# Altium footprint library Linear Technology PMIC-Switching Reg LTC1174-LTC3901.PcbLib: 163 footprints (part 10 of 11)
Each footprint in its own frame and in the unit in brackets; x right, y up, seen from the top. Pads: shape width x height; smd on the part's side, far side on the other; paste and mask are expansions set on the pad; w line width, h text height; cw(c..) or ccw(c..) is an arc to the next point about the centre after c.
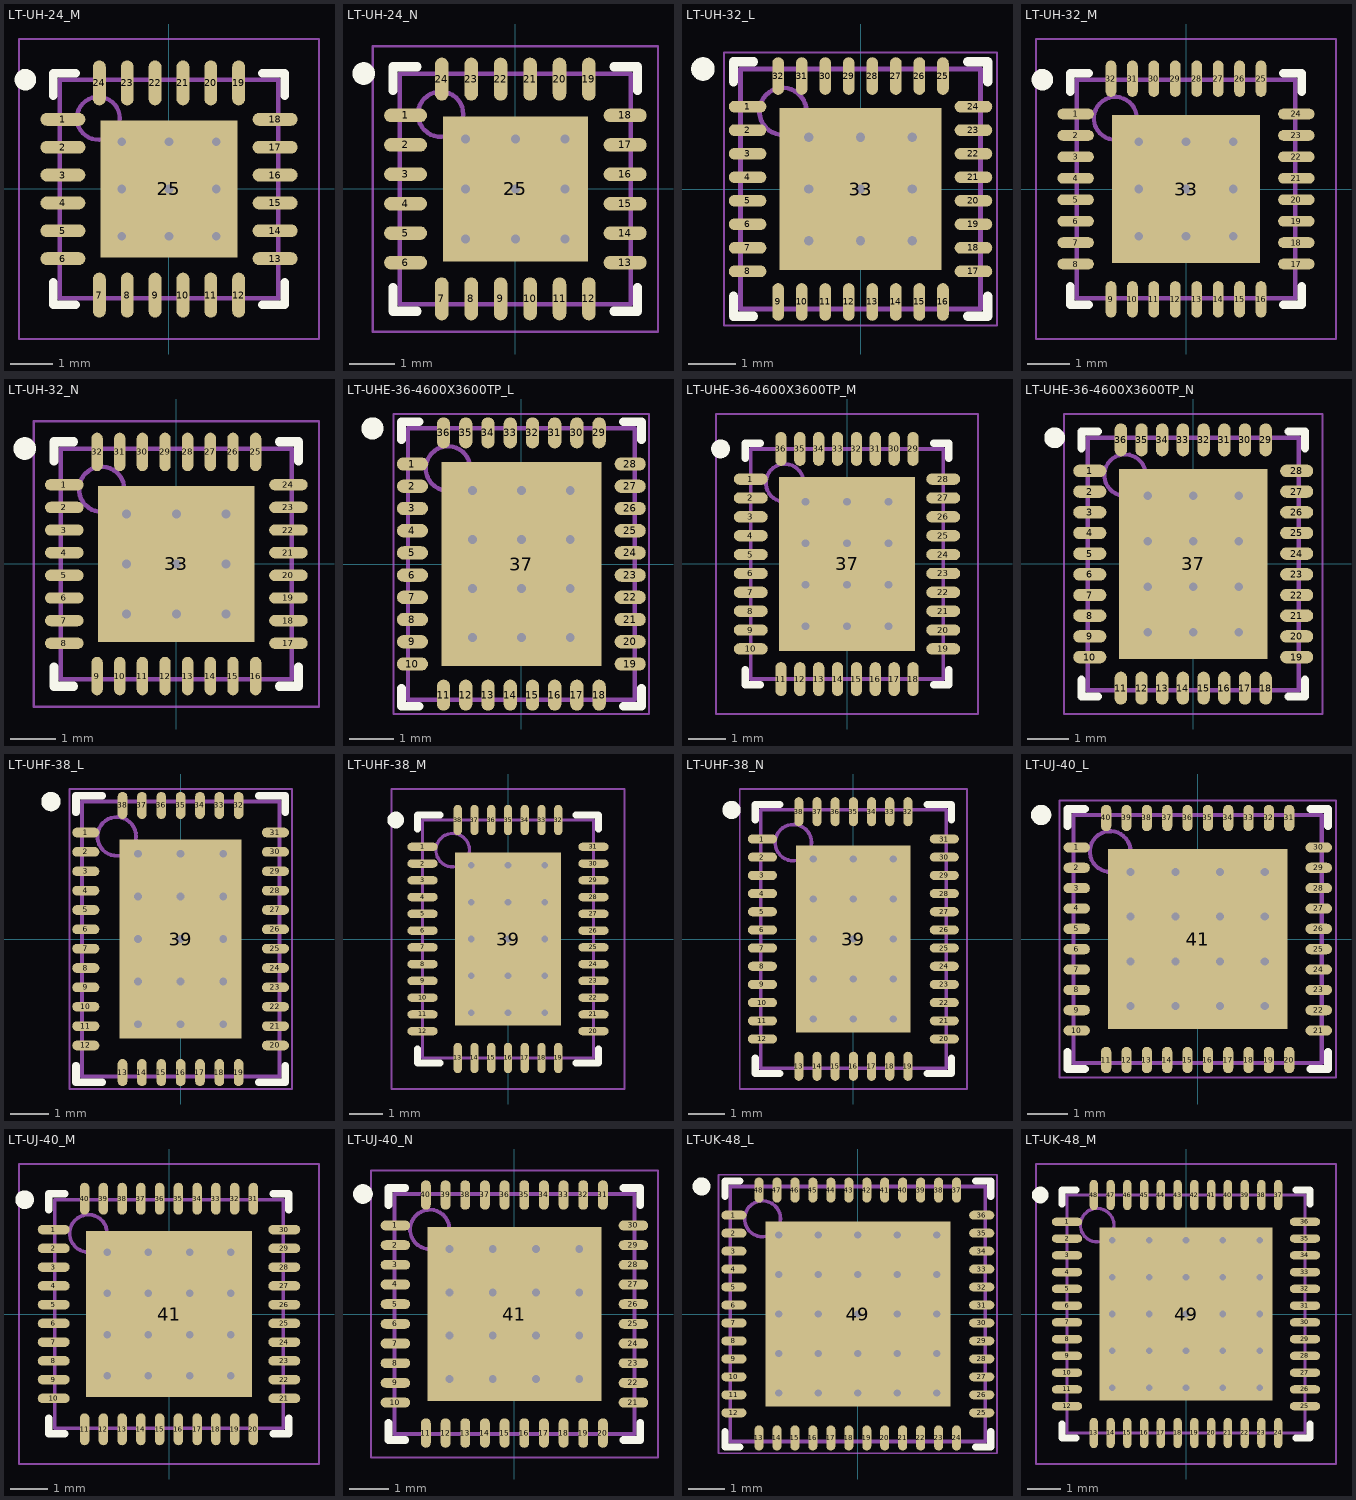
[diagram p9: the footprints below, top view; thin cyan lines are the x and y axes]

## LT-UH-24_M [mm] "QFN, 24-Leads, Body 5.1x5.1mm, Pitch 0.65mm, Thermal Pad 3.2x3.2mm, IPC Low Density"
height 0.8
pads (25):
  oval 1.05x0.3 smd: 1(-2.475,1.625) 2(-2.475,0.975) 3(-2.475,0.325) 4(-2.475,-0.325) 5(-2.475,-0.975) 6(-2.475,-1.625) 13(2.475,-1.625) 14(2.475,-0.975) 15(2.475,-0.325) 16(2.475,0.325) 17(2.475,0.975) 18(2.475,1.625)
  oval 0.3x1.05 smd: 7(-1.625,-2.475) 8(-0.975,-2.475) 9(-0.325,-2.475) 10(0.325,-2.475) 11(0.975,-2.475) 12(1.625,-2.475) 19(1.625,2.475) 20(0.975,2.475) 21(0.325,2.475) 22(-0.325,2.475) 23(-0.975,2.475) 24(-1.625,2.475)
  rect 3.2x3.2 smd: 25(0,0)
via 1.1,-1.1 diameter 0.5 hole 0.2
via 0,-1.1 diameter 0.5 hole 0.2
via -1.1,-1.1 diameter 0.5 hole 0.2
via 1.1,0 diameter 0.5 hole 0.2
via 0,0 diameter 0.5 hole 0.2
via -1.1,0 diameter 0.5 hole 0.2
via 1.1,1.1 diameter 0.5 hole 0.2
via 0,1.1 diameter 0.5 hole 0.2
via -1.1,1.1 diameter 0.5 hole 0.2
Top Overlay:
  circle w0.25: c-3.35,2.55 r0.125
  lines w0.2: -2.7,-2.175 -2.7,-2.7 -2.175,-2.7 ; -2.7,2.175 -2.7,2.7 -2.175,2.7 ; 2.175,-2.7 2.7,-2.7 2.7,-2.175 ; 2.175,2.7 2.7,2.7 2.7,2.175
Mechanical 13:
  circle w0.1: c-1.65,1.65 r0.5
  lines w0.1: -2.55,-2.55 2.55,-2.55 2.55,2.55 -2.55,2.55 -2.55,-2.55
Mechanical 15:
  lines w0.05: -3.5,-3.5 3.5,-3.5 3.5,3.5 -3.5,3.5 -3.5,-3.5
  lines w0.1: -0.5,0 0.5,0 ; 0,-0.5 0,0.5
3D body: height 0.8, standoff 0, extent -2.55,-2.55 2.55,2.55

## LT-UH-24_N [mm] "QFN, 24-Leads, Body 5.1x5.1mm, Pitch 0.65mm, Thermal Pad 3.2x3.2mm, IPC Medium Density"
height 0.8
pads (25):
  oval 0.95x0.3 smd: 1(-2.425,1.625) 2(-2.425,0.975) 3(-2.425,0.325) 4(-2.425,-0.325) 5(-2.425,-0.975) 6(-2.425,-1.625) 13(2.425,-1.625) 14(2.425,-0.975) 15(2.425,-0.325) 16(2.425,0.325) 17(2.425,0.975) 18(2.425,1.625)
  oval 0.3x0.95 smd: 7(-1.625,-2.425) 8(-0.975,-2.425) 9(-0.325,-2.425) 10(0.325,-2.425) 11(0.975,-2.425) 12(1.625,-2.425) 19(1.625,2.425) 20(0.975,2.425) 21(0.325,2.425) 22(-0.325,2.425) 23(-0.975,2.425) 24(-1.625,2.425)
  rect 3.2x3.2 smd: 25(0,0)
via 1.1,-1.1 diameter 0.5 hole 0.2
via 0,-1.1 diameter 0.5 hole 0.2
via -1.1,-1.1 diameter 0.5 hole 0.2
via 1.1,0 diameter 0.5 hole 0.2
via 0,0 diameter 0.5 hole 0.2
via -1.1,0 diameter 0.5 hole 0.2
via 1.1,1.1 diameter 0.5 hole 0.2
via 0,1.1 diameter 0.5 hole 0.2
via -1.1,1.1 diameter 0.5 hole 0.2
Top Overlay:
  circle w0.25: c-3.35,2.55 r0.125
  lines w0.2: -2.7,-2.175 -2.7,-2.7 -2.175,-2.7 ; -2.7,2.175 -2.7,2.7 -2.175,2.7 ; 2.175,-2.7 2.7,-2.7 2.7,-2.175 ; 2.175,2.7 2.7,2.7 2.7,2.175
Mechanical 13:
  circle w0.1: c-1.65,1.65 r0.5
  lines w0.1: -2.55,-2.55 2.55,-2.55 2.55,2.55 -2.55,2.55 -2.55,-2.55
Mechanical 15:
  lines w0.05: -3.15,-3.15 3.15,-3.15 3.15,3.15 -3.15,3.15 -3.15,-3.15
  lines w0.1: -0.5,0 0.5,0 ; 0,-0.5 0,0.5
3D body: height 0.8, standoff 0, extent -2.55,-2.55 2.55,2.55

## LT-UH-32_L [mm] "QFN, 32-Leads, Body 5.1x5.1mm, Pitch 0.5mm, Thermal Pad 3.45X3.45mm, IPC High Density"
height 0.8
pads (33):
  oval 0.8x0.25 smd: 1(-2.4,1.75) 2(-2.4,1.25) 3(-2.4,0.75) 4(-2.4,0.25) 5(-2.4,-0.25) 6(-2.4,-0.75) 7(-2.4,-1.25) 8(-2.4,-1.75) 17(2.4,-1.75) 18(2.4,-1.25) 19(2.4,-0.75) 20(2.4,-0.25) 21(2.4,0.25) 22(2.4,0.75) 23(2.4,1.25) 24(2.4,1.75)
  oval 0.25x0.8 smd: 9(-1.75,-2.4) 10(-1.25,-2.4) 11(-0.75,-2.4) 12(-0.25,-2.4) 13(0.25,-2.4) 14(0.75,-2.4) 15(1.25,-2.4) 16(1.75,-2.4) 25(1.75,2.4) 26(1.25,2.4) 27(0.75,2.4) 28(0.25,2.4) 29(-0.25,2.4) 30(-0.75,2.4) 31(-1.25,2.4) 32(-1.75,2.4)
  rect 3.45x3.45 smd: 33(0,0)
via -1.1,1.1 diameter 0.5 hole 0.2
via 0,1.1 diameter 0.5 hole 0.2
via 1.1,1.1 diameter 0.5 hole 0.2
via -1.1,0 diameter 0.5 hole 0.2
via 0,0 diameter 0.5 hole 0.2
via 1.1,0 diameter 0.5 hole 0.2
via -1.1,-1.1 diameter 0.5 hole 0.2
via 0,-1.1 diameter 0.5 hole 0.2
via 1.1,-1.1 diameter 0.5 hole 0.2
Top Overlay:
  circle w0.25: c-3.35,2.55 r0.125
  lines w0.2: -2.7,-2.275 -2.7,-2.7 -2.275,-2.7 ; -2.7,2.275 -2.7,2.7 -2.275,2.7 ; 2.275,-2.7 2.7,-2.7 2.7,-2.275 ; 2.275,2.7 2.7,2.7 2.7,2.275
Mechanical 13:
  circle w0.1: c-1.65,1.65 r0.5
  lines w0.1: -2.55,-2.55 -2.55,2.55 2.55,2.55 2.55,-2.55 -2.55,-2.55
Mechanical 15:
  lines w0.05: -2.9,-2.9 -2.9,2.9 2.9,2.9 2.9,-2.9 -2.9,-2.9
  lines w0.1: -0.5,0 0.5,0 ; 0,-0.5 0,0.5
3D body: height 0.8, standoff 0, extent -2.55,-2.55 2.55,2.55

## LT-UH-32_M [mm] "QFN, 32-Leads, Body 5.1x5.1mm, Pitch 0.5mm, Thermal Pad 3.45X3.45mm, IPC Low Density"
height 0.8
pads (33):
  oval 0.85x0.25 smd: 1(-2.575,1.75) 2(-2.575,1.25) 3(-2.575,0.75) 4(-2.575,0.25) 5(-2.575,-0.25) 6(-2.575,-0.75) 7(-2.575,-1.25) 8(-2.575,-1.75) 17(2.575,-1.75) 18(2.575,-1.25) 19(2.575,-0.75) 20(2.575,-0.25) 21(2.575,0.25) 22(2.575,0.75) 23(2.575,1.25) 24(2.575,1.75)
  oval 0.25x0.85 smd: 9(-1.75,-2.575) 10(-1.25,-2.575) 11(-0.75,-2.575) 12(-0.25,-2.575) 13(0.25,-2.575) 14(0.75,-2.575) 15(1.25,-2.575) 16(1.75,-2.575) 25(1.75,2.575) 26(1.25,2.575) 27(0.75,2.575) 28(0.25,2.575) 29(-0.25,2.575) 30(-0.75,2.575) 31(-1.25,2.575) 32(-1.75,2.575)
  rect 3.45x3.45 smd: 33(0,0)
via -1.1,1.1 diameter 0.5 hole 0.2
via 0,1.1 diameter 0.5 hole 0.2
via 1.1,1.1 diameter 0.5 hole 0.2
via -1.1,0 diameter 0.5 hole 0.2
via 0,0 diameter 0.5 hole 0.2
via 1.1,0 diameter 0.5 hole 0.2
via -1.1,-1.1 diameter 0.5 hole 0.2
via 0,-1.1 diameter 0.5 hole 0.2
via 1.1,-1.1 diameter 0.5 hole 0.2
Top Overlay:
  circle w0.25: c-3.35,2.55 r0.125
  lines w0.2: -2.7,-2.275 -2.7,-2.7 -2.275,-2.7 ; -2.7,2.275 -2.7,2.7 -2.275,2.7 ; 2.275,-2.7 2.7,-2.7 2.7,-2.275 ; 2.275,2.7 2.7,2.7 2.7,2.275
Mechanical 13:
  circle w0.1: c-1.65,1.65 r0.5
  lines w0.1: -2.55,-2.55 -2.55,2.55 2.55,2.55 2.55,-2.55 -2.55,-2.55
Mechanical 15:
  lines w0.05: -3.5,-3.5 -3.5,3.5 3.5,3.5 3.5,-3.5 -3.5,-3.5
  lines w0.1: -0.5,0 0.5,0 ; 0,-0.5 0,0.5
3D body: height 0.8, standoff 0, extent -2.55,-2.55 2.55,2.55

## LT-UH-32_N [mm] "QFN, 32-Leads, Body 5.1x5.1mm, Pitch 0.5mm, Thermal Pad 3.45X3.45mm, IPC Medium Density"
height 0.8
pads (33):
  oval 0.85x0.25 smd: 1(-2.475,1.75) 2(-2.475,1.25) 3(-2.475,0.75) 4(-2.475,0.25) 5(-2.475,-0.25) 6(-2.475,-0.75) 7(-2.475,-1.25) 8(-2.475,-1.75) 17(2.475,-1.75) 18(2.475,-1.25) 19(2.475,-0.75) 20(2.475,-0.25) 21(2.475,0.25) 22(2.475,0.75) 23(2.475,1.25) 24(2.475,1.75)
  oval 0.25x0.85 smd: 9(-1.75,-2.475) 10(-1.25,-2.475) 11(-0.75,-2.475) 12(-0.25,-2.475) 13(0.25,-2.475) 14(0.75,-2.475) 15(1.25,-2.475) 16(1.75,-2.475) 25(1.75,2.475) 26(1.25,2.475) 27(0.75,2.475) 28(0.25,2.475) 29(-0.25,2.475) 30(-0.75,2.475) 31(-1.25,2.475) 32(-1.75,2.475)
  rect 3.45x3.45 smd: 33(0,0)
via -1.1,1.1 diameter 0.5 hole 0.2
via 0,1.1 diameter 0.5 hole 0.2
via 1.1,1.1 diameter 0.5 hole 0.2
via -1.1,0 diameter 0.5 hole 0.2
via 0,0 diameter 0.5 hole 0.2
via 1.1,0 diameter 0.5 hole 0.2
via -1.1,-1.1 diameter 0.5 hole 0.2
via 0,-1.1 diameter 0.5 hole 0.2
via 1.1,-1.1 diameter 0.5 hole 0.2
Top Overlay:
  circle w0.25: c-3.35,2.55 r0.125
  lines w0.2: -2.7,-2.275 -2.7,-2.7 -2.275,-2.7 ; -2.7,2.275 -2.7,2.7 -2.275,2.7 ; 2.275,-2.7 2.7,-2.7 2.7,-2.275 ; 2.275,2.7 2.7,2.7 2.7,2.275
Mechanical 13:
  circle w0.1: c-1.65,1.65 r0.5
  lines w0.1: -2.55,-2.55 -2.55,2.55 2.55,2.55 2.55,-2.55 -2.55,-2.55
Mechanical 15:
  lines w0.05: -3.15,-3.15 -3.15,3.15 3.15,3.15 3.15,-3.15 -3.15,-3.15
  lines w0.1: -0.5,0 0.5,0 ; 0,-0.5 0,0.5
3D body: height 0.8, standoff 0, extent -2.55,-2.55 2.55,2.55

## LT-UHE-36-4600X3600TP_L [mm] "QFN, 36-Leads, Body 6.1x5.1mm, Pitch 0.5mm, Thermal Pad 4.6x3.6mm, IPC High Density"
height 0.8
pads (37):
  oval 0.7x0.3 smd: 1(-2.45,2.25) 2(-2.45,1.75) 3(-2.45,1.25) 4(-2.45,0.75) 5(-2.45,0.25) 6(-2.45,-0.25) 7(-2.45,-0.75) 8(-2.45,-1.25) 9(-2.45,-1.75) 10(-2.45,-2.25) 19(2.45,-2.25) 20(2.45,-1.75) 21(2.45,-1.25) 22(2.45,-0.75) 23(2.45,-0.25) 24(2.45,0.25) 25(2.45,0.75) 26(2.45,1.25) 27(2.45,1.75) 28(2.45,2.25)
  oval 0.3x0.7 smd: 11(-1.75,-2.95) 12(-1.25,-2.95) 13(-0.75,-2.95) 14(-0.25,-2.95) 15(0.25,-2.95) 16(0.75,-2.95) 17(1.25,-2.95) 18(1.75,-2.95) 29(1.75,2.95) 30(1.25,2.95) 31(0.75,2.95) 32(0.25,2.95) 33(-0.25,2.95) 34(-0.75,2.95) 35(-1.25,2.95) 36(-1.75,2.95)
  rect 3.6x4.6 smd: 37(0,0)
via -1.1,1.65 diameter 0.5 hole 0.2
via 0,1.65 diameter 0.5 hole 0.2
via 1.1,1.65 diameter 0.5 hole 0.2
via -1.1,0.55 diameter 0.5 hole 0.2
via 0,0.55 diameter 0.5 hole 0.2
via 1.1,0.55 diameter 0.5 hole 0.2
via -1.1,-0.55 diameter 0.5 hole 0.2
via 0,-0.55 diameter 0.5 hole 0.2
via 1.1,-0.55 diameter 0.5 hole 0.2
via -1.1,-1.65 diameter 0.5 hole 0.2
via 0,-1.65 diameter 0.5 hole 0.2
via 1.1,-1.65 diameter 0.5 hole 0.2
Top Overlay:
  circle w0.25: c-3.35,3.05 r0.125
  lines w0.2: -2.7,-2.8 -2.7,-3.2 -2.3,-3.2 ; -2.7,2.8 -2.7,3.2 -2.3,3.2 ; 2.3,-3.2 2.7,-3.2 2.7,-2.8 ; 2.3,3.2 2.7,3.2 2.7,2.8
Mechanical 13:
  circle w0.1: c-1.65,2.15 r0.5
  lines w0.1: -2.55,-3.05 -2.55,3.05 2.55,3.05 2.55,-3.05 -2.55,-3.05
Mechanical 15:
  lines w0.05: -2.875,-3.375 -2.875,3.375 2.875,3.375 2.875,-3.375 -2.875,-3.375
  lines w0.1: -0.5,0 0.5,0 ; 0,-0.5 0,0.5
3D body: height 0.8, standoff 0, extent -2.55,-3.05 2.55,3.05

## LT-UHE-36-4600X3600TP_M [mm] "QFN, 36-Leads, Body 6.1x5.1mm, Pitch 0.5mm, Thermal Pad 4.6x3.6mm, IPC Low Density"
height 0.8
pads (37):
  oval 0.9x0.3 smd: 1(-2.55,2.25) 2(-2.55,1.75) 3(-2.55,1.25) 4(-2.55,0.75) 5(-2.55,0.25) 6(-2.55,-0.25) 7(-2.55,-0.75) 8(-2.55,-1.25) 9(-2.55,-1.75) 10(-2.55,-2.25) 19(2.55,-2.25) 20(2.55,-1.75) 21(2.55,-1.25) 22(2.55,-0.75) 23(2.55,-0.25) 24(2.55,0.25) 25(2.55,0.75) 26(2.55,1.25) 27(2.55,1.75) 28(2.55,2.25)
  oval 0.3x0.9 smd: 11(-1.75,-3.05) 12(-1.25,-3.05) 13(-0.75,-3.05) 14(-0.25,-3.05) 15(0.25,-3.05) 16(0.75,-3.05) 17(1.25,-3.05) 18(1.75,-3.05) 29(1.75,3.05) 30(1.25,3.05) 31(0.75,3.05) 32(0.25,3.05) 33(-0.25,3.05) 34(-0.75,3.05) 35(-1.25,3.05) 36(-1.75,3.05)
  rect 3.6x4.6 smd: 37(0,0)
via -1.1,1.65 diameter 0.5 hole 0.2
via 0,1.65 diameter 0.5 hole 0.2
via 1.1,1.65 diameter 0.5 hole 0.2
via -1.1,0.55 diameter 0.5 hole 0.2
via 0,0.55 diameter 0.5 hole 0.2
via 1.1,0.55 diameter 0.5 hole 0.2
via -1.1,-0.55 diameter 0.5 hole 0.2
via 0,-0.55 diameter 0.5 hole 0.2
via 1.1,-0.55 diameter 0.5 hole 0.2
via -1.1,-1.65 diameter 0.5 hole 0.2
via 0,-1.65 diameter 0.5 hole 0.2
via 1.1,-1.65 diameter 0.5 hole 0.2
Top Overlay:
  circle w0.25: c-3.35,3.05 r0.125
  lines w0.2: -2.7,-2.8 -2.7,-3.2 -2.3,-3.2 ; -2.7,2.8 -2.7,3.2 -2.3,3.2 ; 2.3,-3.2 2.7,-3.2 2.7,-2.8 ; 2.3,3.2 2.7,3.2 2.7,2.8
Mechanical 13:
  circle w0.1: c-1.65,2.15 r0.5
  lines w0.1: -2.55,-3.05 -2.55,3.05 2.55,3.05 2.55,-3.05 -2.55,-3.05
Mechanical 15:
  lines w0.05: -3.475,-3.975 -3.475,3.975 3.475,3.975 3.475,-3.975 -3.475,-3.975
  lines w0.1: -0.5,0 0.5,0 ; 0,-0.5 0,0.5
3D body: height 0.8, standoff 0, extent -2.55,-3.05 2.55,3.05

## LT-UHE-36-4600X3600TP_N [mm] "QFN, 36-Leads, Body 6.1x5.1mm, Pitch 0.5mm, Thermal Pad 4.6x3.6mm, IPC Medium Density"
height 0.8
pads (37):
  oval 0.8x0.3 smd: 1(-2.5,2.25) 2(-2.5,1.75) 3(-2.5,1.25) 4(-2.5,0.75) 5(-2.5,0.25) 6(-2.5,-0.25) 7(-2.5,-0.75) 8(-2.5,-1.25) 9(-2.5,-1.75) 10(-2.5,-2.25) 19(2.5,-2.25) 20(2.5,-1.75) 21(2.5,-1.25) 22(2.5,-0.75) 23(2.5,-0.25) 24(2.5,0.25) 25(2.5,0.75) 26(2.5,1.25) 27(2.5,1.75) 28(2.5,2.25)
  oval 0.3x0.8 smd: 11(-1.75,-3) 12(-1.25,-3) 13(-0.75,-3) 14(-0.25,-3) 15(0.25,-3) 16(0.75,-3) 17(1.25,-3) 18(1.75,-3) 29(1.75,3) 30(1.25,3) 31(0.75,3) 32(0.25,3) 33(-0.25,3) 34(-0.75,3) 35(-1.25,3) 36(-1.75,3)
  rect 3.6x4.6 smd: 37(0,0)
via -1.1,1.65 diameter 0.5 hole 0.2
via 0,1.65 diameter 0.5 hole 0.2
via 1.1,1.65 diameter 0.5 hole 0.2
via -1.1,0.55 diameter 0.5 hole 0.2
via 0,0.55 diameter 0.5 hole 0.2
via 1.1,0.55 diameter 0.5 hole 0.2
via -1.1,-0.55 diameter 0.5 hole 0.2
via 0,-0.55 diameter 0.5 hole 0.2
via 1.1,-0.55 diameter 0.5 hole 0.2
via -1.1,-1.65 diameter 0.5 hole 0.2
via 0,-1.65 diameter 0.5 hole 0.2
via 1.1,-1.65 diameter 0.5 hole 0.2
Top Overlay:
  circle w0.25: c-3.35,3.05 r0.125
  lines w0.2: -2.7,-2.8 -2.7,-3.2 -2.3,-3.2 ; -2.7,2.8 -2.7,3.2 -2.3,3.2 ; 2.3,-3.2 2.7,-3.2 2.7,-2.8 ; 2.3,3.2 2.7,3.2 2.7,2.8
Mechanical 13:
  circle w0.1: c-1.65,2.15 r0.5
  lines w0.1: -2.55,-3.05 -2.55,3.05 2.55,3.05 2.55,-3.05 -2.55,-3.05
Mechanical 15:
  lines w0.05: -3.125,-3.625 -3.125,3.625 3.125,3.625 3.125,-3.625 -3.125,-3.625
  lines w0.1: -0.5,0 0.5,0 ; 0,-0.5 0,0.5
3D body: height 0.8, standoff 0, extent -2.55,-3.05 2.55,3.05

## LT-UHF-38_L [mm] "QFN, 38-Leads, Body 7.1x5.1mm, Pitch 0.5mm, Thermal Pad 3.15x5.15mm, IPC High Density"
height 0.8
pads (39):
  oval 0.7x0.25 smd: 1(-2.45,2.75) 2(-2.45,2.25) 3(-2.45,1.75) 4(-2.45,1.25) 5(-2.45,0.75) 6(-2.45,0.25) 7(-2.45,-0.25) 8(-2.45,-0.75) 9(-2.45,-1.25) 10(-2.45,-1.75) 11(-2.45,-2.25) 12(-2.45,-2.75) 20(2.45,-2.75) 21(2.45,-2.25) 22(2.45,-1.75) 23(2.45,-1.25) 24(2.45,-0.75) 25(2.45,-0.25) 26(2.45,0.25) 27(2.45,0.75) 28(2.45,1.25) 29(2.45,1.75) 30(2.45,2.25) 31(2.45,2.75)
  oval 0.25x0.7 smd: 13(-1.5,-3.45) 14(-1,-3.45) 15(-0.5,-3.45) 16(0,-3.45) 17(0.5,-3.45) 18(1,-3.45) 19(1.5,-3.45) 32(1.5,3.45) 33(1,3.45) 34(0.5,3.45) 35(0,3.45) 36(-0.5,3.45) 37(-1,3.45) 38(-1.5,3.45)
  rect 3.15x5.15 smd: 39(0,0)
via -1.1,2.2 diameter 0.5 hole 0.2
via 0,2.2 diameter 0.5 hole 0.2
via 1.1,2.2 diameter 0.5 hole 0.2
via -1.1,1.1 diameter 0.5 hole 0.2
via 0,1.1 diameter 0.5 hole 0.2
via 1.1,1.1 diameter 0.5 hole 0.2
via -1.1,0 diameter 0.5 hole 0.2
via 0,0 diameter 0.5 hole 0.2
via 1.1,0 diameter 0.5 hole 0.2
via -1.1,-1.1 diameter 0.5 hole 0.2
via 0,-1.1 diameter 0.5 hole 0.2
via 1.1,-1.1 diameter 0.5 hole 0.2
via -1.1,-2.2 diameter 0.5 hole 0.2
via 0,-2.2 diameter 0.5 hole 0.2
via 1.1,-2.2 diameter 0.5 hole 0.2
Top Overlay:
  circle w0.25: c-3.35,3.55 r0.125
  lines w0.2: -2.7,-3.275 -2.7,-3.7 -2.025,-3.7 ; -2.7,3.275 -2.7,3.7 -2.025,3.7 ; 2.025,-3.7 2.7,-3.7 2.7,-3.275 ; 2.025,3.7 2.7,3.7 2.7,3.275
Mechanical 13:
  circle w0.1: c-1.65,2.65 r0.5
  lines w0.1: -2.55,-3.55 -2.55,3.55 2.55,3.55 2.55,-3.55 -2.55,-3.55
Mechanical 15:
  lines w0.05: -2.875,-3.875 -2.875,3.875 2.875,3.875 2.875,-3.875 -2.875,-3.875
  lines w0.1: -0.5,0 0.5,0 ; 0,-0.5 0,0.5
3D body: height 0.8, standoff 0, extent -2.55,-3.55 2.55,3.55

## LT-UHF-38_M [mm] "QFN, 38-Leads, Body 7.1x5.1mm, Pitch 0.5mm, Thermal Pad 3.15x5.15mm, IPC Low Density"
height 0.8
pads (39):
  oval 0.9x0.25 smd: 1(-2.55,2.75) 2(-2.55,2.25) 3(-2.55,1.75) 4(-2.55,1.25) 5(-2.55,0.75) 6(-2.55,0.25) 7(-2.55,-0.25) 8(-2.55,-0.75) 9(-2.55,-1.25) 10(-2.55,-1.75) 11(-2.55,-2.25) 12(-2.55,-2.75) 20(2.55,-2.75) 21(2.55,-2.25) 22(2.55,-1.75) 23(2.55,-1.25) 24(2.55,-0.75) 25(2.55,-0.25) 26(2.55,0.25) 27(2.55,0.75) 28(2.55,1.25) 29(2.55,1.75) 30(2.55,2.25) 31(2.55,2.75)
  oval 0.25x0.9 smd: 13(-1.5,-3.55) 14(-1,-3.55) 15(-0.5,-3.55) 16(0,-3.55) 17(0.5,-3.55) 18(1,-3.55) 19(1.5,-3.55) 32(1.5,3.55) 33(1,3.55) 34(0.5,3.55) 35(0,3.55) 36(-0.5,3.55) 37(-1,3.55) 38(-1.5,3.55)
  rect 3.15x5.15 smd: 39(0,0)
via -1.1,2.2 diameter 0.5 hole 0.2
via 0,2.2 diameter 0.5 hole 0.2
via 1.1,2.2 diameter 0.5 hole 0.2
via -1.1,1.1 diameter 0.5 hole 0.2
via 0,1.1 diameter 0.5 hole 0.2
via 1.1,1.1 diameter 0.5 hole 0.2
via -1.1,0 diameter 0.5 hole 0.2
via 0,0 diameter 0.5 hole 0.2
via 1.1,0 diameter 0.5 hole 0.2
via -1.1,-1.1 diameter 0.5 hole 0.2
via 0,-1.1 diameter 0.5 hole 0.2
via 1.1,-1.1 diameter 0.5 hole 0.2
via -1.1,-2.2 diameter 0.5 hole 0.2
via 0,-2.2 diameter 0.5 hole 0.2
via 1.1,-2.2 diameter 0.5 hole 0.2
Top Overlay:
  circle w0.25: c-3.35,3.55 r0.125
  lines w0.2: -2.7,-3.275 -2.7,-3.7 -2.025,-3.7 ; -2.7,3.275 -2.7,3.7 -2.025,3.7 ; 2.025,-3.7 2.7,-3.7 2.7,-3.275 ; 2.025,3.7 2.7,3.7 2.7,3.275
Mechanical 13:
  circle w0.1: c-1.65,2.65 r0.5
  lines w0.1: -2.55,-3.55 -2.55,3.55 2.55,3.55 2.55,-3.55 -2.55,-3.55
Mechanical 15:
  lines w0.05: -3.475,-4.475 -3.475,4.475 3.475,4.475 3.475,-4.475 -3.475,-4.475
  lines w0.1: -0.5,0 0.5,0 ; 0,-0.5 0,0.5
3D body: height 0.8, standoff 0, extent -2.55,-3.55 2.55,3.55

## LT-UHF-38_N [mm] "QFN, 38-Leads, Body 7.1x5.1mm, Pitch 0.5mm, Thermal Pad 3.15x5.15mm, IPC Medium Density"
height 0.8
pads (39):
  oval 0.8x0.25 smd: 1(-2.5,2.75) 2(-2.5,2.25) 3(-2.5,1.75) 4(-2.5,1.25) 5(-2.5,0.75) 6(-2.5,0.25) 7(-2.5,-0.25) 8(-2.5,-0.75) 9(-2.5,-1.25) 10(-2.5,-1.75) 11(-2.5,-2.25) 12(-2.5,-2.75) 20(2.5,-2.75) 21(2.5,-2.25) 22(2.5,-1.75) 23(2.5,-1.25) 24(2.5,-0.75) 25(2.5,-0.25) 26(2.5,0.25) 27(2.5,0.75) 28(2.5,1.25) 29(2.5,1.75) 30(2.5,2.25) 31(2.5,2.75)
  oval 0.25x0.8 smd: 13(-1.5,-3.5) 14(-1,-3.5) 15(-0.5,-3.5) 16(0,-3.5) 17(0.5,-3.5) 18(1,-3.5) 19(1.5,-3.5) 32(1.5,3.5) 33(1,3.5) 34(0.5,3.5) 35(0,3.5) 36(-0.5,3.5) 37(-1,3.5) 38(-1.5,3.5)
  rect 3.15x5.15 smd: 39(0,0)
via 1.1,-2.2 diameter 0.5 hole 0.2
via 0,-2.2 diameter 0.5 hole 0.2
via -1.1,-2.2 diameter 0.5 hole 0.2
via 1.1,-1.1 diameter 0.5 hole 0.2
via 0,-1.1 diameter 0.5 hole 0.2
via -1.1,-1.1 diameter 0.5 hole 0.2
via 1.1,0 diameter 0.5 hole 0.2
via 0,0 diameter 0.5 hole 0.2
via -1.1,0 diameter 0.5 hole 0.2
via 1.1,1.1 diameter 0.5 hole 0.2
via 0,1.1 diameter 0.5 hole 0.2
via -1.1,1.1 diameter 0.5 hole 0.2
via 1.1,2.2 diameter 0.5 hole 0.2
via 0,2.2 diameter 0.5 hole 0.2
via -1.1,2.2 diameter 0.5 hole 0.2
Top Overlay:
  circle w0.25: c-3.35,3.55 r0.125
  lines w0.2: -2.7,-3.275 -2.7,-3.7 -2.025,-3.7 ; -2.7,3.275 -2.7,3.7 -2.025,3.7 ; 2.025,-3.7 2.7,-3.7 2.7,-3.275 ; 2.025,3.7 2.7,3.7 2.7,3.275
Mechanical 13:
  circle w0.1: c-1.65,2.65 r0.5
  lines w0.1: -2.55,-3.55 2.55,-3.55 2.55,3.55 -2.55,3.55 -2.55,-3.55
Mechanical 15:
  lines w0.05: -3.125,-4.125 3.125,-4.125 3.125,4.125 -3.125,4.125 -3.125,-4.125
  lines w0.1: -0.5,0 0.5,0 ; 0,-0.5 0,0.5
3D body: height 0.8, standoff 0, extent -2.55,-3.55 2.55,3.55

## LT-UJ-40_L [mm] "QFN, 40-Leads, Body 6.1x6.1mm, Pitch 0.5mm, Thermal Pad 4.42x4.42mm, IPC High Density"
height 0.8
pads (41):
  oval 0.65x0.25 smd: 1(-2.975,2.25) 2(-2.975,1.75) 3(-2.975,1.25) 4(-2.975,0.75) 5(-2.975,0.25) 6(-2.975,-0.25) 7(-2.975,-0.75) 8(-2.975,-1.25) 9(-2.975,-1.75) 10(-2.975,-2.25) 21(2.975,-2.25) 22(2.975,-1.75) 23(2.975,-1.25) 24(2.975,-0.75) 25(2.975,-0.25) 26(2.975,0.25) 27(2.975,0.75) 28(2.975,1.25) 29(2.975,1.75) 30(2.975,2.25)
  oval 0.25x0.65 smd: 11(-2.25,-2.975) 12(-1.75,-2.975) 13(-1.25,-2.975) 14(-0.75,-2.975) 15(-0.25,-2.975) 16(0.25,-2.975) 17(0.75,-2.975) 18(1.25,-2.975) 19(1.75,-2.975) 20(2.25,-2.975) 31(2.25,2.975) 32(1.75,2.975) 33(1.25,2.975) 34(0.75,2.975) 35(0.25,2.975) 36(-0.25,2.975) 37(-0.75,2.975) 38(-1.25,2.975) 39(-1.75,2.975) 40(-2.25,2.975)
  rect 4.42x4.42 smd: 41(0,0)
via 1.65,-1.65 diameter 0.5 hole 0.2
via 0.55,-1.65 diameter 0.5 hole 0.2
via -0.55,-1.65 diameter 0.5 hole 0.2
via -1.65,-1.65 diameter 0.5 hole 0.2
via 1.65,-0.55 diameter 0.5 hole 0.2
via 0.55,-0.55 diameter 0.5 hole 0.2
via -0.55,-0.55 diameter 0.5 hole 0.2
via -1.65,-0.55 diameter 0.5 hole 0.2
via 1.65,0.55 diameter 0.5 hole 0.2
via 0.55,0.55 diameter 0.5 hole 0.2
via -0.55,0.55 diameter 0.5 hole 0.2
via -1.65,0.55 diameter 0.5 hole 0.2
via 1.65,1.65 diameter 0.5 hole 0.2
via 0.55,1.65 diameter 0.5 hole 0.2
via -0.55,1.65 diameter 0.5 hole 0.2
via -1.65,1.65 diameter 0.5 hole 0.2
Top Overlay:
  circle w0.25: c-3.85,3.05 r0.125
  lines w0.2: -3.2,-2.775 -3.2,-3.2 -2.775,-3.2 ; -3.2,2.775 -3.2,3.2 -2.775,3.2 ; 2.775,-3.2 3.2,-3.2 3.2,-2.775 ; 2.775,3.2 3.2,3.2 3.2,2.775
Mechanical 13:
  circle w0.1: c-2.15,2.15 r0.5
  lines w0.1: -3.05,-3.05 3.05,-3.05 3.05,3.05 -3.05,3.05 -3.05,-3.05
Mechanical 15:
  lines w0.05: -3.4,-3.4 3.4,-3.4 3.4,3.4 -3.4,3.4 -3.4,-3.4
  lines w0.1: -0.5,0 0.5,0 ; 0,-0.5 0,0.5
3D body: height 0.8, standoff 0, extent -3.05,-3.05 3.05,3.05

## LT-UJ-40_M [mm] "QFN, 40-Leads, Body 6.1x6.1mm, Pitch 0.5mm, Thermal Pad 4.42x4.42mm, IPC Low Density"
height 0.8
pads (41):
  oval 0.85x0.25 smd: 1(-3.075,2.25) 2(-3.075,1.75) 3(-3.075,1.25) 4(-3.075,0.75) 5(-3.075,0.25) 6(-3.075,-0.25) 7(-3.075,-0.75) 8(-3.075,-1.25) 9(-3.075,-1.75) 10(-3.075,-2.25) 21(3.075,-2.25) 22(3.075,-1.75) 23(3.075,-1.25) 24(3.075,-0.75) 25(3.075,-0.25) 26(3.075,0.25) 27(3.075,0.75) 28(3.075,1.25) 29(3.075,1.75) 30(3.075,2.25)
  oval 0.25x0.85 smd: 11(-2.25,-3.075) 12(-1.75,-3.075) 13(-1.25,-3.075) 14(-0.75,-3.075) 15(-0.25,-3.075) 16(0.25,-3.075) 17(0.75,-3.075) 18(1.25,-3.075) 19(1.75,-3.075) 20(2.25,-3.075) 31(2.25,3.075) 32(1.75,3.075) 33(1.25,3.075) 34(0.75,3.075) 35(0.25,3.075) 36(-0.25,3.075) 37(-0.75,3.075) 38(-1.25,3.075) 39(-1.75,3.075) 40(-2.25,3.075)
  rect 4.42x4.42 smd: 41(0,0)
via -1.65,1.65 diameter 0.5 hole 0.2
via -0.55,1.65 diameter 0.5 hole 0.2
via 0.55,1.65 diameter 0.5 hole 0.2
via 1.65,1.65 diameter 0.5 hole 0.2
via -1.65,0.55 diameter 0.5 hole 0.2
via -0.55,0.55 diameter 0.5 hole 0.2
via 0.55,0.55 diameter 0.5 hole 0.2
via 1.65,0.55 diameter 0.5 hole 0.2
via -1.65,-0.55 diameter 0.5 hole 0.2
via -0.55,-0.55 diameter 0.5 hole 0.2
via 0.55,-0.55 diameter 0.5 hole 0.2
via 1.65,-0.55 diameter 0.5 hole 0.2
via -1.65,-1.65 diameter 0.5 hole 0.2
via -0.55,-1.65 diameter 0.5 hole 0.2
via 0.55,-1.65 diameter 0.5 hole 0.2
via 1.65,-1.65 diameter 0.5 hole 0.2
Top Overlay:
  circle w0.25: c-3.85,3.05 r0.125
  lines w0.2: -3.2,-2.775 -3.2,-3.2 -2.775,-3.2 ; -3.2,2.775 -3.2,3.2 -2.775,3.2 ; 2.775,-3.2 3.2,-3.2 3.2,-2.775 ; 2.775,3.2 3.2,3.2 3.2,2.775
Mechanical 13:
  circle w0.1: c-2.15,2.15 r0.5
  lines w0.1: -3.05,-3.05 -3.05,3.05 3.05,3.05 3.05,-3.05 -3.05,-3.05
Mechanical 15:
  lines w0.05: -4,-4 -4,4 4,4 4,-4 -4,-4
  lines w0.1: -0.5,0 0.5,0 ; 0,-0.5 0,0.5
3D body: height 0.8, standoff 0, extent -3.05,-3.05 3.05,3.05

## LT-UJ-40_N [mm] "QFN, 40-Leads, Body 6.1x6.1mm, Pitch 0.5mm, Thermal Pad 4.42x4.42mm, IPC Medium Density"
height 0.8
pads (41):
  oval 0.75x0.25 smd: 1(-3.025,2.25) 2(-3.025,1.75) 3(-3.025,1.25) 4(-3.025,0.75) 5(-3.025,0.25) 6(-3.025,-0.25) 7(-3.025,-0.75) 8(-3.025,-1.25) 9(-3.025,-1.75) 10(-3.025,-2.25) 21(3.025,-2.25) 22(3.025,-1.75) 23(3.025,-1.25) 24(3.025,-0.75) 25(3.025,-0.25) 26(3.025,0.25) 27(3.025,0.75) 28(3.025,1.25) 29(3.025,1.75) 30(3.025,2.25)
  oval 0.25x0.75 smd: 11(-2.25,-3.025) 12(-1.75,-3.025) 13(-1.25,-3.025) 14(-0.75,-3.025) 15(-0.25,-3.025) 16(0.25,-3.025) 17(0.75,-3.025) 18(1.25,-3.025) 19(1.75,-3.025) 20(2.25,-3.025) 31(2.25,3.025) 32(1.75,3.025) 33(1.25,3.025) 34(0.75,3.025) 35(0.25,3.025) 36(-0.25,3.025) 37(-0.75,3.025) 38(-1.25,3.025) 39(-1.75,3.025) 40(-2.25,3.025)
  rect 4.42x4.42 smd: 41(0,0)
via 1.65,-1.65 diameter 0.5 hole 0.2
via 0.55,-1.65 diameter 0.5 hole 0.2
via -0.55,-1.65 diameter 0.5 hole 0.2
via -1.65,-1.65 diameter 0.5 hole 0.2
via 1.65,-0.55 diameter 0.5 hole 0.2
via 0.55,-0.55 diameter 0.5 hole 0.2
via -0.55,-0.55 diameter 0.5 hole 0.2
via -1.65,-0.55 diameter 0.5 hole 0.2
via 1.65,0.55 diameter 0.5 hole 0.2
via 0.55,0.55 diameter 0.5 hole 0.2
via -0.55,0.55 diameter 0.5 hole 0.2
via -1.65,0.55 diameter 0.5 hole 0.2
via 1.65,1.65 diameter 0.5 hole 0.2
via 0.55,1.65 diameter 0.5 hole 0.2
via -0.55,1.65 diameter 0.5 hole 0.2
via -1.65,1.65 diameter 0.5 hole 0.2
Top Overlay:
  circle w0.25: c-3.85,3.05 r0.125
  lines w0.2: -3.2,-2.775 -3.2,-3.2 -2.775,-3.2 ; -3.2,2.775 -3.2,3.2 -2.775,3.2 ; 2.775,-3.2 3.2,-3.2 3.2,-2.775 ; 2.775,3.2 3.2,3.2 3.2,2.775
Mechanical 13:
  circle w0.1: c-2.15,2.15 r0.5
  lines w0.1: -3.05,-3.05 3.05,-3.05 3.05,3.05 -3.05,3.05 -3.05,-3.05
Mechanical 15:
  lines w0.05: -3.65,-3.65 3.65,-3.65 3.65,3.65 -3.65,3.65 -3.65,-3.65
  lines w0.1: -0.5,0 0.5,0 ; 0,-0.5 0,0.5
3D body: height 0.8, standoff 0, extent -3.05,-3.05 3.05,3.05

## LT-UK-48_L [mm] "QFN, 48-Leads, Body 7.1x7.1mm, Pitch 0.5mm, Thermal Pad 5.15x5.15mm, IPC High Density"
height 0.8
pads (49):
  oval 0.7x0.25 smd: 1(-3.45,2.75) 2(-3.45,2.25) 3(-3.45,1.75) 4(-3.45,1.25) 5(-3.45,0.75) 6(-3.45,0.25) 7(-3.45,-0.25) 8(-3.45,-0.75) 9(-3.45,-1.25) 10(-3.45,-1.75) 11(-3.45,-2.25) 12(-3.45,-2.75) 25(3.45,-2.75) 26(3.45,-2.25) 27(3.45,-1.75) 28(3.45,-1.25) 29(3.45,-0.75) 30(3.45,-0.25) 31(3.45,0.25) 32(3.45,0.75) 33(3.45,1.25) 34(3.45,1.75) 35(3.45,2.25) 36(3.45,2.75)
  oval 0.25x0.7 smd: 13(-2.75,-3.45) 14(-2.25,-3.45) 15(-1.75,-3.45) 16(-1.25,-3.45) 17(-0.75,-3.45) 18(-0.25,-3.45) 19(0.25,-3.45) 20(0.75,-3.45) 21(1.25,-3.45) 22(1.75,-3.45) 23(2.25,-3.45) 24(2.75,-3.45) 37(2.75,3.45) 38(2.25,3.45) 39(1.75,3.45) 40(1.25,3.45) 41(0.75,3.45) 42(0.25,3.45) 43(-0.25,3.45) 44(-0.75,3.45) 45(-1.25,3.45) 46(-1.75,3.45) 47(-2.25,3.45) 48(-2.75,3.45)
  rect 5.15x5.15 smd: 49(0,0)
via 2.2,-2.2 diameter 0.5 hole 0.2
via 1.1,-2.2 diameter 0.5 hole 0.2
via 0,-2.2 diameter 0.5 hole 0.2
via -1.1,-2.2 diameter 0.5 hole 0.2
via -2.2,-2.2 diameter 0.5 hole 0.2
via 2.2,-1.1 diameter 0.5 hole 0.2
via 1.1,-1.1 diameter 0.5 hole 0.2
via 0,-1.1 diameter 0.5 hole 0.2
via -1.1,-1.1 diameter 0.5 hole 0.2
via -2.2,-1.1 diameter 0.5 hole 0.2
via 2.2,0 diameter 0.5 hole 0.2
via 1.1,0 diameter 0.5 hole 0.2
via 0,0 diameter 0.5 hole 0.2
via -1.1,0 diameter 0.5 hole 0.2
via -2.2,0 diameter 0.5 hole 0.2
via 2.2,1.1 diameter 0.5 hole 0.2
via 1.1,1.1 diameter 0.5 hole 0.2
via 0,1.1 diameter 0.5 hole 0.2
via -1.1,1.1 diameter 0.5 hole 0.2
via -2.2,1.1 diameter 0.5 hole 0.2
via 2.2,2.2 diameter 0.5 hole 0.2
via 1.1,2.2 diameter 0.5 hole 0.2
via 0,2.2 diameter 0.5 hole 0.2
via -1.1,2.2 diameter 0.5 hole 0.2
via -2.2,2.2 diameter 0.5 hole 0.2
Top Overlay:
  circle w0.25: c-4.35,3.55 r0.125
  lines w0.2: -3.7,-3.274 -3.7,-3.7 -3.274,-3.7 ; -3.7,3.274 -3.7,3.7 -3.274,3.7 ; 3.274,-3.7 3.7,-3.7 3.7,-3.274 ; 3.274,3.7 3.7,3.7 3.7,3.274
Mechanical 13:
  circle w0.1: c-2.65,2.65 r0.5
  lines w0.1: -3.55,-3.55 3.55,-3.55 3.55,3.55 -3.55,3.55 -3.55,-3.55
Mechanical 15:
  lines w0.05: -3.875,-3.875 3.875,-3.875 3.875,3.875 -3.875,3.875 -3.875,-3.875
  lines w0.1: -0.5,0 0.5,0 ; 0,-0.5 0,0.5
3D body: height 0.8, standoff 0, extent -3.55,-3.55 3.55,3.55

## LT-UK-48_M [mm] "QFN, 48-Leads, Body 7.1x7.1mm, Pitch 0.5mm, Thermal Pad 5.15x5.15mm, IPC Low Density"
height 0.8
pads (49):
  oval 0.9x0.25 smd: 1(-3.55,2.75) 2(-3.55,2.25) 3(-3.55,1.75) 4(-3.55,1.25) 5(-3.55,0.75) 6(-3.55,0.25) 7(-3.55,-0.25) 8(-3.55,-0.75) 9(-3.55,-1.25) 10(-3.55,-1.75) 11(-3.55,-2.25) 12(-3.55,-2.75) 25(3.55,-2.75) 26(3.55,-2.25) 27(3.55,-1.75) 28(3.55,-1.25) 29(3.55,-0.75) 30(3.55,-0.25) 31(3.55,0.25) 32(3.55,0.75) 33(3.55,1.25) 34(3.55,1.75) 35(3.55,2.25) 36(3.55,2.75)
  oval 0.25x0.9 smd: 13(-2.75,-3.55) 14(-2.25,-3.55) 15(-1.75,-3.55) 16(-1.25,-3.55) 17(-0.75,-3.55) 18(-0.25,-3.55) 19(0.25,-3.55) 20(0.75,-3.55) 21(1.25,-3.55) 22(1.75,-3.55) 23(2.25,-3.55) 24(2.75,-3.55) 37(2.75,3.55) 38(2.25,3.55) 39(1.75,3.55) 40(1.25,3.55) 41(0.75,3.55) 42(0.25,3.55) 43(-0.25,3.55) 44(-0.75,3.55) 45(-1.25,3.55) 46(-1.75,3.55) 47(-2.25,3.55) 48(-2.75,3.55)
  rect 5.15x5.15 smd: 49(0,0)
via 2.2,-2.2 diameter 0.5 hole 0.2
via 1.1,-2.2 diameter 0.5 hole 0.2
via 0,-2.2 diameter 0.5 hole 0.2
via -1.1,-2.2 diameter 0.5 hole 0.2
via -2.2,-2.2 diameter 0.5 hole 0.2
via 2.2,-1.1 diameter 0.5 hole 0.2
via 1.1,-1.1 diameter 0.5 hole 0.2
via 0,-1.1 diameter 0.5 hole 0.2
via -1.1,-1.1 diameter 0.5 hole 0.2
via -2.2,-1.1 diameter 0.5 hole 0.2
via 2.2,0 diameter 0.5 hole 0.2
via 1.1,0 diameter 0.5 hole 0.2
via 0,0 diameter 0.5 hole 0.2
via -1.1,0 diameter 0.5 hole 0.2
via -2.2,0 diameter 0.5 hole 0.2
via 2.2,1.1 diameter 0.5 hole 0.2
via 1.1,1.1 diameter 0.5 hole 0.2
via 0,1.1 diameter 0.5 hole 0.2
via -1.1,1.1 diameter 0.5 hole 0.2
via -2.2,1.1 diameter 0.5 hole 0.2
via 2.2,2.2 diameter 0.5 hole 0.2
via 1.1,2.2 diameter 0.5 hole 0.2
via 0,2.2 diameter 0.5 hole 0.2
via -1.1,2.2 diameter 0.5 hole 0.2
via -2.2,2.2 diameter 0.5 hole 0.2
Top Overlay:
  circle w0.25: c-4.35,3.55 r0.125
  lines w0.2: -3.7,-3.275 -3.7,-3.7 -3.275,-3.7 ; -3.7,3.275 -3.7,3.7 -3.275,3.7 ; 3.275,-3.7 3.7,-3.7 3.7,-3.275 ; 3.275,3.7 3.7,3.7 3.7,3.275
Mechanical 13:
  circle w0.1: c-2.65,2.65 r0.5
  lines w0.1: -3.55,-3.55 3.55,-3.55 3.55,3.55 -3.55,3.55 -3.55,-3.55
Mechanical 15:
  lines w0.05: -4.475,-4.475 4.475,-4.475 4.475,4.475 -4.475,4.475 -4.475,-4.475
  lines w0.1: -0.5,0 0.5,0 ; 0,-0.5 0,0.5
3D body: height 0.8, standoff 0, extent -3.55,-3.55 3.55,3.55